# EAGLE library part PIC18LF25K50-SOIC28 (library AllAboutEE)
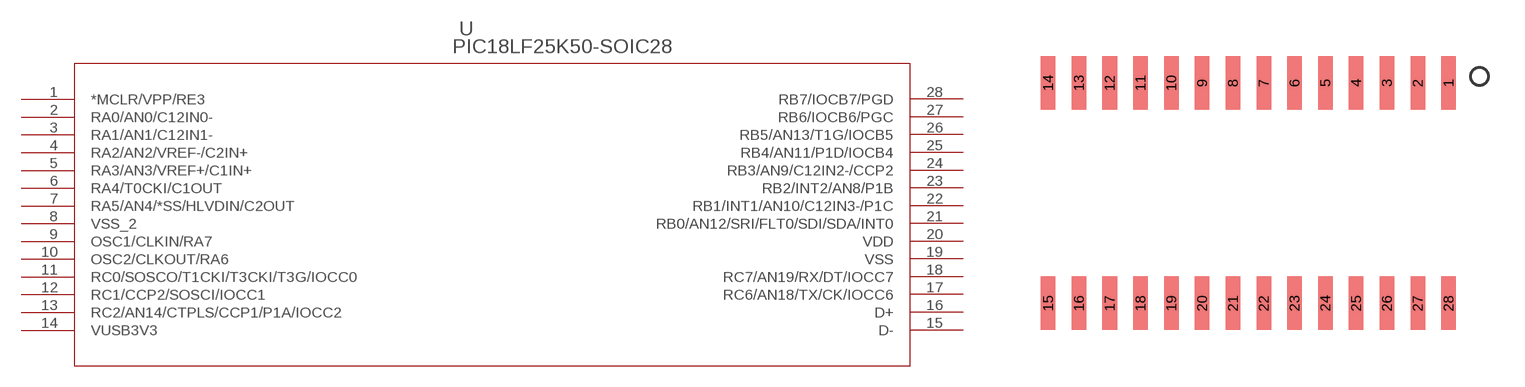
[diagram p13: symbol with the pads of SOIC-28; footprint SOIC-28]

Designator prefix -

## PIC18LF25K50-SOIC28  [SOIC-28]
1  *MCLR/VPP/RE3  pas
2  RA0/AN0/C12IN0-  pas
3  RA1/AN1/C12IN1-  pas
4  RA2/AN2/VREF-/C2IN+  pas
5  RA3/AN3/VREF+/C1IN+  pas
6  RA4/T0CKI/C1OUT  pas
7  RA5/AN4/*SS/HLVDIN/C2OUT  pas
8  VSS_2  pas
9  OSC1/CLKIN/RA7  pas
10  OSC2/CLKOUT/RA6  pas
11  RC0/SOSCO/T1CKI/T3CKI/T3G/IOCC0  pas
12  RC1/CCP2/SOSCI/IOCC1  pas
13  RC2/AN14/CTPLS/CCP1/P1A/IOCC2  pas
14  VUSB3V3  pas
15  D-  pas
16  D+  pas
17  RC6/AN18/TX/CK/IOCC6  pas
18  RC7/AN19/RX/DT/IOCC7  pas
19  VSS  pas
20  VDD  pas
21  RB0/AN12/SRI/FLT0/SDI/SDA/INT0  pas
22  RB1/INT1/AN10/C12IN3-/P1C  pas
23  RB2/INT2/AN8/P1B  pas
24  RB3/AN9/C12IN2-/CCP2  pas
25  RB4/AN11/P1D/IOCB4  pas
26  RB5/AN13/T1G/IOCB5  pas
27  RB6/IOCB6/PGC  pas
28  RB7/IOCB7/PGD  pas

## Footprint SOIC-28 (pad centres in mm)
smd 0.6 x 2.2: 1 8.89,4.548; 2 7.62,4.548; 3 6.35,4.548; 4 5.08,4.548; 5 3.81,4.548; 6 2.54,4.548; 7 1.27,4.548; 8 0,4.548; 9 -1.27,4.548; 10 -2.54,4.548; 11 -3.81,4.548; 12 -5.08,4.548; 13 -6.35,4.548; 14 -7.62,4.548; 15 -7.62,-4.548; 16 -6.35,-4.548; 17 -5.08,-4.548; 18 -3.81,-4.548; 19 -2.54,-4.548; 20 -1.27,-4.548; 21 0,-4.548; 22 1.27,-4.548; 23 2.54,-4.548; 24 3.81,-4.548; 25 5.08,-4.548; 26 6.35,-4.548; 27 7.62,-4.548; 28 8.89,-4.548